# EAGLE library part 61400416021 (library Input-Output_Connectors_rev15d)
WR-COM Horizontal USB Type A=>Code :Con_I-O_COM_USB_2.0_A_61400416021 <http://katalog.we-online.de/media/images/eican/Con_I-O_COM_USB_2.0_A_61400416021_pf2.jpg> Details see: http://katalog.we-online.de/en/em/614_004_160_21 Created 2014-07-09, Karrer Zheng 2014 (C) Würth Elektronik
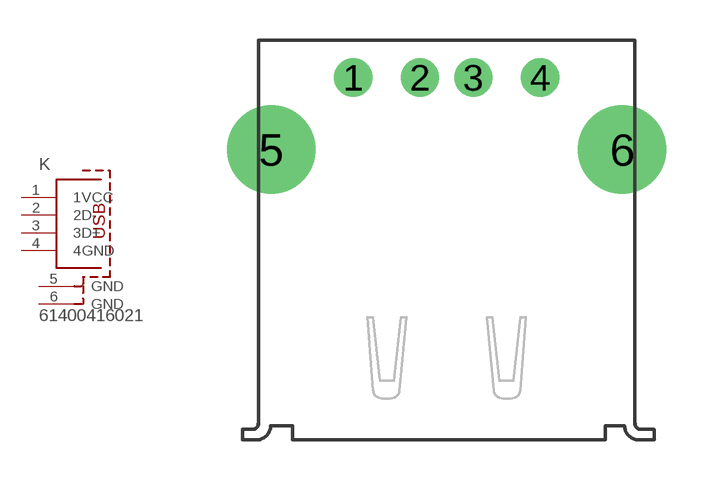
[diagram p162: symbol with the pads of 61400416021; footprint 61400416021]

Designator prefix K

## 61400416021  [61400416021]
1  1VCC  pas
2  2D-  pas
3  3D+  pas
4  4GND  pas
5  GND
6  GND

## Footprint 61400416021 (pad centres in mm)
WR-COM Horizontal USB Type A
drill 0.92: 1 -3.5,2.7; 2 -1,2.7; 3 1,2.7; 4 3.5,2.7
drill 2.3: 5 -6.57,0; 6 6.57,0